# EAGLE library part MICROBUILDER_AMG8833 (library forkbomb19)
AMG8833 8x8 IR Grid Sensor Viewing Angle: ~60° Temp Accuracy: +/-2-3°C (high/low gain)
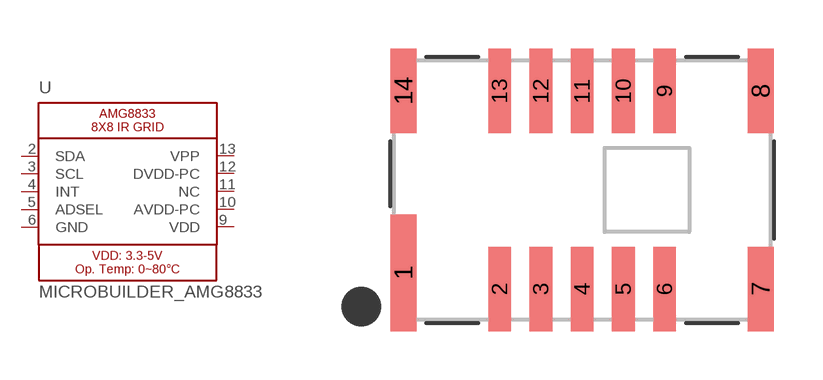
[diagram p1: symbol with the pads of MICROBUILDER_AMG8833; footprint MICROBUILDER_AMG8833]

Designator prefix U

## MICROBUILDER_AMG8833  [MICROBUILDER_AMG8833]
2  SDA
3  SCL
4  INT  out
5  ADSEL  in
6  GND  pwr
9  VDD  pwr
10  AVDD-PC  pwr
11  NC
12  DVDD-PC  pwr
13  VPP  pwr

## Footprint MICROBUILDER_AMG8833 (pad centres in mm)
smd 0.8 x 3.6: 1 -5.5,-2.55
smd 0.7 x 2.6: 2 -2.54,-3.05; 3 -1.27,-3.05; 4 0,-3.05; 5 1.27,-3.05; 6 2.54,-3.05; 9 2.54,3.05; 10 1.27,3.05; 11 0,3.05; 12 -1.27,3.05; 13 -2.54,3.05
smd 0.8 x 2.6: 7 5.5,-3.05; 8 5.5,3.05; 14 -5.5,3.05